# Altium schematic symbol library CC0402KRX7R9BB471.SchLib: 1 symbol
Pins are listed as number, name and electrical type; pins without a type are passive.

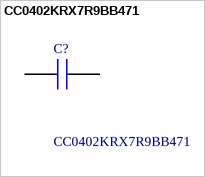
[diagram p0: symbol CC0402KRX7R9BB471]

## CC0402KRX7R9BB471
designator C?
Multilayer Ceramic Capacitors MLCC - SMD/SMT 50 V 470pF X7R 0402 10%; Manufacturer_Name: Yageo Group; Geometry.Height: 0.55mm; Mouser Part Number: 603-CC402KRX7R9BB471; Mouser Price/Stock: https://www.mouser.co.uk/ProductDetail/YAGEO/CC0402KRX7R9BB471?qs=AgBp2OyFlx9PkRAac6bwLg%3D%3D; Manufacturer_Part_Number: CC0402KRX7R9BB471; Datasheet Link: https://4donline.ihs.com/images/VipMasterIC/IC/YAGO/YAGO-S-A0011723860/YAGO-S-A0011723860-1.pdf?hkey=EF798316E3902B6ED9A73243A3159BB0
footprint CAPC1005X55N
pins: 1, 2